# EAGLE library part A24001-16 (library con-omnetics)
CONNECTOR wire to board 1.27 mm (0.05") pitch header
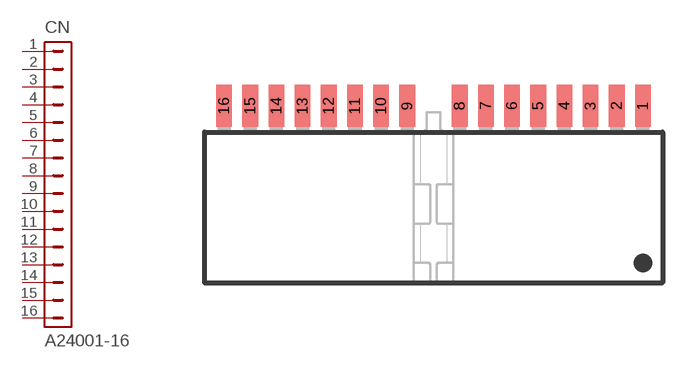
[diagram p13: symbol with the pads of A24001-016; footprint A24001-016]

Designator prefix CN

## A24001-16  [A24001-016]
1  1  pas
2  2  pas
3  3  pas
4  4  pas
5  5  pas
6  6  pas
7  7  pas
8  8  pas
9  9  pas
10  10  pas
11  11  pas
12  12  pas
13  13  pas
14  14  pas
15  15  pas
16  16  pas

## Footprint A24001-016 (pad centres in mm)
Connector SMD right angle, 16 pin
smd 0.762 x 2.032: 1 10.16,5.08; 2 8.89,5.08; 3 7.62,5.08; 4 6.35,5.08; 5 5.08,5.08; 6 3.81,5.08; 7 2.54,5.08; 8 1.27,5.08; 9 -1.27,5.08; 10 -2.54,5.08; 11 -3.81,5.08; 12 -5.08,5.08; 13 -6.35,5.08; 14 -7.62,5.08; 15 -8.89,5.08; 16 -10.16,5.08